# Altium schematic symbol library Sensors.SchLib: 2 symbols
Pins are listed as number, name and electrical type; pins without a type are passive.

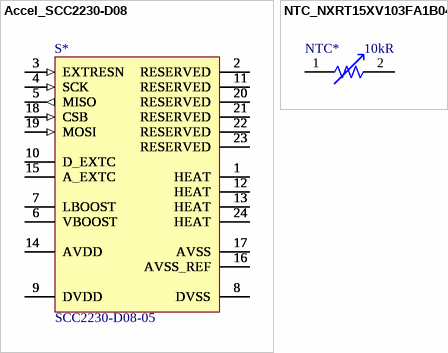
[diagram p0: symbols Accel_SCC2230-D08 to NTC_NXRT15XV103FA1B040]

## Accel_SCC2230-D08
designator S*, comment Manufacturer Part Number 1: SCC2230-D08-05  (hidden comment: SCC2230-D08)
Accelerometer and Gyroscope Digital Output 3.3V 24-Pin SOIC T/R; Manufacturer 1: Murata; Sensor Type: Accelerometer,Gyroscope,3 Axis; Output Type: SPI; Supplier 1: Digi-Key; RoHS: Yes; Category: Inertial Measurement Units (IMUs); Stock 1: 296; Pricing 1: 1=92,29000, 5=87,67600, 10=80,75400, 25=71,52480 (USD); Mount: Surface Mount; Case/Package: SMD/SMT; Min Operating Temperature: -40°C; Max Operating Temperature: 125°C; Packaging: Tape and Reel; RoHS Compliant: Yes; ComponentLink1URL: https://www.murata.com/~/media/webrenewal/products/sensor/gyro/scc2000/scc2230-d08%20datasheet%2082177600b0.ashx?la=en&src-supplier=Digi-Key; ComponentLink1Description: https://www.murata.com/~/media/webrenewal/products/sensor/gyro/scc2000/scc2230-d08%20datasheet%2082177600b0.ashx?la=en&src-supplier=Digi-Key; Supplier Part Number 1: 490-12142-1-ND; ComponentLink2Description: Murata; ComponentLink2URL: https://www.murata.com/en-global/products/productdetail?partno=SCC2230-D08
footprint Accel_SCC2230-D08 (SOP, 24-Leads, Body 15,00x8,50mm, Pitch 1,00mm, IPC Medium Density)
pins: 1 HEAT, 1 HEAT, 1 HEAT, 1 HEAT, 1 HEAT, 1 HEAT, 1 HEAT, 1 HEAT, 2 RESERVED, 2 RESERVED, 2 RESERVED, 2 RESERVED, 2 RESERVED, 2 RESERVED, 2 RESERVED, 2 RESERVED, 3 EXTRESN (in), 3 EXTRESN (in), 3 EXTRESN (in), 3 EXTRESN (in), 3 EXTRESN (in), 3 EXTRESN (in), 3 EXTRESN (in), 3 EXTRESN (in), 4 SCK (in), 4 SCK (in), 4 SCK (in), 4 SCK (in), 4 SCK (in), 4 SCK (in), 4 SCK (in), 4 SCK (in), 5 MISO (out), 5 MISO (out), 5 MISO (out), 5 MISO (out), 5 MISO (out), 5 MISO (out), 5 MISO (out), 5 MISO (out), 6 VBOOST, 6 VBOOST, 6 VBOOST, 6 VBOOST, 6 VBOOST, 6 VBOOST, 6 VBOOST, 6 VBOOST, 7 LBOOST, 7 LBOOST, 7 LBOOST, 7 LBOOST, 7 LBOOST, 7 LBOOST, 7 LBOOST, 7 LBOOST, 8 DVSS, 8 DVSS, 8 DVSS, 8 DVSS, 8 DVSS, 8 DVSS, 8 DVSS, 8 DVSS, 9 DVDD, 9 DVDD, 9 DVDD, 9 DVDD, 9 DVDD, 9 DVDD, 9 DVDD, 9 DVDD, 10 D_EXTC, 10 D_EXTC, 10 D_EXTC, 10 D_EXTC, 10 D_EXTC, 10 D_EXTC, 10 D_EXTC, 10 D_EXTC, 11 RESERVED, 11 RESERVED, 11 RESERVED, 11 RESERVED, 11 RESERVED, 11 RESERVED, 11 RESERVED, 11 RESERVED, 12 HEAT, 12 HEAT, 12 HEAT, 12 HEAT, 12 HEAT, 12 HEAT, 12 HEAT, 12 HEAT, 13 HEAT, 13 HEAT, 13 HEAT, 13 HEAT, 13 HEAT, 13 HEAT, 13 HEAT, 13 HEAT, 14 AVDD, 14 AVDD, 14 AVDD, 14 AVDD, 14 AVDD, 14 AVDD, 14 AVDD, 14 AVDD, 15 A_EXTC, 15 A_EXTC, 15 A_EXTC, 15 A_EXTC, 15 A_EXTC, 15 A_EXTC, 15 A_EXTC, 15 A_EXTC, 16 AVSS_REF, 16 AVSS_REF, 16 AVSS_REF, 16 AVSS_REF, 16 AVSS_REF, 16 AVSS_REF, 16 AVSS_REF, 16 AVSS_REF, 17 AVSS, 17 AVSS, 17 AVSS, 17 AVSS, 17 AVSS, 17 AVSS, 17 AVSS, 17 AVSS, 18 CSB (in), 18 CSB (in), 18 CSB (in), 18 CSB (in), 18 CSB (in), 18 CSB (in), 18 CSB (in), 18 CSB (in), 19 MOSI (in), 19 MOSI (in), 19 MOSI (in), 19 MOSI (in), 19 MOSI (in), 19 MOSI (in), 19 MOSI (in), 19 MOSI (in), 20 RESERVED, 20 RESERVED, 20 RESERVED, 20 RESERVED, 20 RESERVED, 20 RESERVED, 20 RESERVED, 20 RESERVED, 21 RESERVED, 21 RESERVED, 21 RESERVED, 21 RESERVED, 21 RESERVED, 21 RESERVED, 21 RESERVED, 21 RESERVED, 22 RESERVED, 22 RESERVED, 22 RESERVED, 22 RESERVED, 22 RESERVED, 22 RESERVED, 22 RESERVED, 22 RESERVED, 23 RESERVED, 23 RESERVED, 23 RESERVED, 23 RESERVED, 23 RESERVED, 23 RESERVED, 23 RESERVED, 23 RESERVED, 24 HEAT, 24 HEAT, 24 HEAT, 24 HEAT, 24 HEAT, 24 HEAT, 24 HEAT, 24 HEAT

## NTC_NXRT15XV103FA1B040
designator NTC*, comment Resistance: 10kR  (hidden comment: NXRT15XV103FA1B040)
NXR Series 10 kOhm 3900 K ±1% Bead NTC Thermistor Sensor; Manufacturer 1: Murata; Power Rating: 7.5mW; Lead Diameter: 0.4mm; Supplier 1: Digi-Key; Manufacturer Part Number 1: NXRT15XV103FA1B040; RoHS: Yes; Category: Thermistors; Stock 1: 38458; Pricing 1: 1=0,63000, 5=0,60000, 10=0,52300, 25=0,45920, 50=0,38140, 100=0,32490, 500=0,28248, 1000=0,24717, 5000=0,21892 (USD); Mount: Through Hole; Number of Pins: 2; Min Operating Temperature: -40°C; Max Operating Temperature: 125°C; Packaging: Bulk; Termination: Radial; Tolerance: 1%; Package Quantity: 500; Series: NXR; Resistance Tolerance: 1%; Max Power Dissipation: 7.5mW; Length: 5mm; Width: 4mm; Height: 2mm; Lead Pitch: 2.5mm; Lead Free: Lead Free; RoHS Compliant: No; ComponentLink1URL: http://www.mouser.com/ds/2/281/r44e-3685.pdf?src-supplier=Mouser; ComponentLink1Description: http://www.mouser.com/ds/2/281/r44e-3685.pdf?src-supplier=Mouser; ComponentLink2URL: https://www.murata.com/en-us/products/productdata/8796838297630/S0423E.pdf?src-supplier=Digi-Key; ComponentLink2Description: https://www.murata.com/en-us/products/productdata/8796838297630/S0423E.pdf?src-supplier=Digi-Key; ComponentLink3URL: http://www.murata.com/~/media/webrenewal/support/library/catalog/products/thermistor/ntc/r44e.ashx?src-supplier=Avnet; ComponentLink3Description: http://www.murata.com/~/media/webrenewal/support/library/catalog/products/thermistor/ntc/r44e.ashx?src-supplier=Avnet; Supplier Part Number 1: 490-7171-ND
footprint NTC_NXRT15XV103FA1B040
pins: 1 2, 2